# Altium schematic symbol library SCH - DIODES - DIODE.SCHLIB: 1 symbol
Pins are listed as number, name and electrical type; pins without a type are passive.

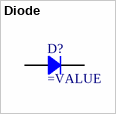
[diagram p0: symbol Diode]

## Diode
designator D?
Rectifier Diode
pins: 1, 2